# Altium footprint library lqw_2_0402.PcbLib: 1 footprints
Each footprint in its own frame and in the unit in brackets; x right, y up, seen from the top. Pads: shape width x height; smd on the part's side, far side on the other; paste and mask are expansions set on the pad; w line width, h text height; cw(c..) or ccw(c..) is an arc to the next point about the centre after c.
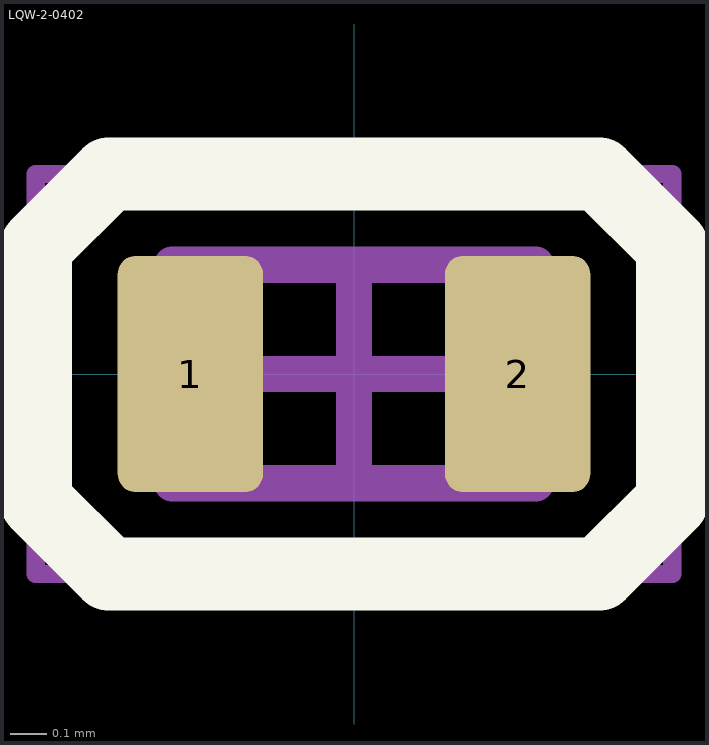
[diagram p0: the footprint, top view; thin cyan lines are the x and y axes]

## LQW-2-0402 [mm] "Chip Inductor, 2-Leads, Body 1,00x0,50mm, IPC Medium Density"
height 0.5
pads (2):
  rrect25% 0.4x0.65 smd: 1(-0.45,0) 2(0.45,0)
Top Overlay:
  lines w0.2: -0.875,-0.35 -0.675,-0.55 0.675,-0.55 0.875,-0.35 0.875,0.35 0.675,0.55 -0.675,0.55 -0.875,0.35 -0.875,-0.35
Top Comment:
  text ".Comment" at 0.9,0.7 h1.2
Top Designator:
  text ".Designator" at -0.1,0.7 h1.2
Top Component Outline:
  lines w0.1: -0.5,-0.3 0.5,-0.3 0.5,0.3 -0.5,0.3 -0.5,-0.3
Top Courtyard (Mech15):
  lines w0.05: -0.875,-0.55 0.875,-0.55 0.875,0.55 -0.875,0.55 -0.875,-0.55
  lines w0.1: -0.25,0 0.25,0 ; 0,-0.25 0,0.25
3D body "LQW_2_0402.STEP": height 0.6, standoff 0, extent -0.5,-0.3 0.5,0.3